# Altium footprint library PCB - LEADED - SOT23-5_L.PCBLIB: 1 footprints
Each footprint in its own frame and in the unit in brackets; x right, y up, seen from the top. Pads: shape width x height; smd on the part's side, far side on the other; paste and mask are expansions set on the pad; w line width, h text height; cw(c..) or ccw(c..) is an arc to the next point about the centre after c.
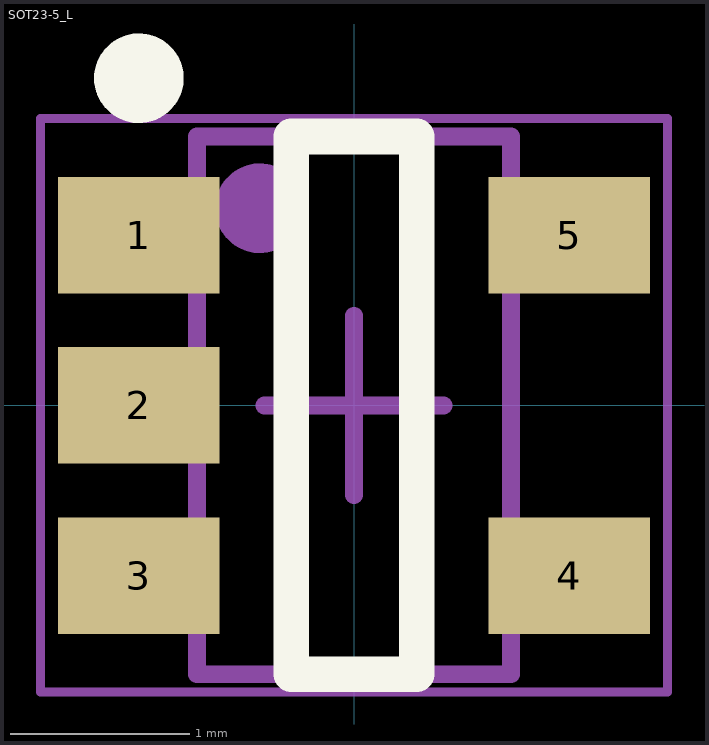
[diagram p0: the footprint, top view; thin cyan lines are the x and y axes]

## SOT23-5_L [mm] "SOT23, 5-Leads, Body 2.9x1.6mm, Pitch 0.95mm, Lead Span 2.8mm, IPC High Density"
height 1.45
pads (5):
  rect 0.9x0.65 smd: 1(-1.2,0.95) 2(-1.2,0) 3(-1.2,-0.95) 4(1.2,-0.95) 5(1.2,0.95)
Top Overlay:
  circle w0.25: c-1.2,1.825 r0.125
  lines w0.2: -0.35,-1.5 -0.35,1.5 0.35,1.5 0.35,-1.5 -0.35,-1.5
M5 Assembly Top:
  circle w0.25: c-0.525,1.1 r0.125
  lines w0.05: -0.85,-1.15 -1.5,-1.15 -1.5,-0.75 -0.85,-0.75 ; -0.85,-0.2 -1.5,-0.2 -1.5,0.2 -0.85,0.2 ; -0.85,0.75 -1.5,0.75 -1.5,1.15 -0.85,1.15 ; 0.85,-1.15 1.5,-1.15 1.5,-0.75 0.85,-0.75 ; 0.85,0.75 1.5,0.75 1.5,1.15 0.85,1.15
  lines w0.1: -0.875,-1.5 0.875,-1.5 0.875,1.5 -0.875,1.5 -0.875,-1.5
  text ".Designator" at 0.4,-1.324 h0.76
Mechanical 15:
  lines w0.05: -1.75,-1.6 1.75,-1.6 1.75,1.6 -1.75,1.6 -1.75,-1.6
  lines w0.1: -0.5,0 0.5,0 ; 0,-0.5 0,0.5
3D body: height 1.45, standoff 0, extent -0.875,-1.5 0.875,1.5